# EAGLE library part DS1339AU (library DS1339 RTC Library)
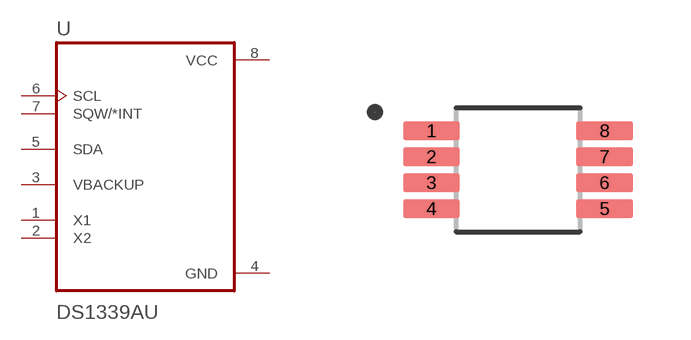
[diagram p0: symbol with the pads of SOP65P490X110-8N; footprint SOP65P490X110-8N]

Designator prefix U

## DS1339AU (DESCRIPTION: Real Time Clock Serial 8-Pin uMAX; DIGI-KEY_PART_NUMBER: DS1339AU+-ND; DIGI-KEY_PURCHASE_URL: https://www.digikey.com/product-detail/en/maxim-integrated/DS1339AU-/DS1339AU--ND/3440513?utm_source=snapeda&utm_medium=aggregator&utm_campaign=symbol; MF: Maxim Integrated; MP: DS1339AU+; PACKAGE: &amp;MICRO;MAX-8 Maxim)  [SOP65P490X110-8N]
1  X1
2  X2
3  VBACKUP
4  GND  pwr
5  SDA
6  SCL  in
7  SQW/*INT  in
8  VCC  pwr

## Footprint SOP65P490X110-8N (pad centres in mm)
smd 1.42 x 0.47: 1 -2.165,0.975; 2 -2.165,0.325; 3 -2.165,-0.325; 4 -2.165,-0.975; 5 2.165,-0.975; 6 2.165,-0.325; 7 2.165,0.325; 8 2.165,0.975